# EAGLE library part A4988_DRIVER (library ATtami)
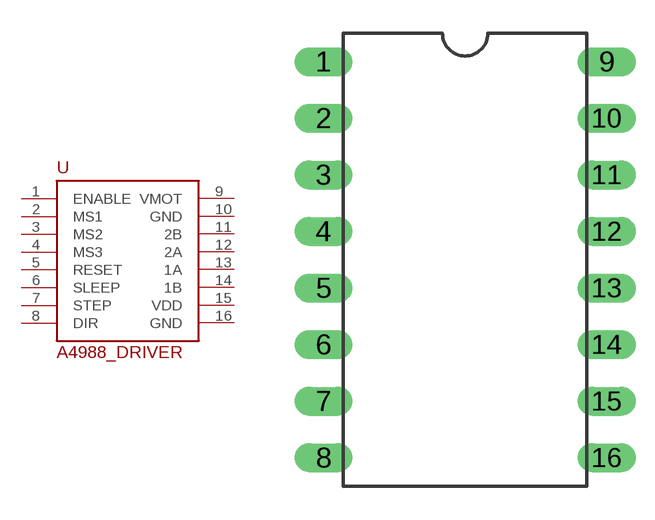
[diagram p1: symbol with the pads of DIL16; footprint DIL16]

Designator prefix -

## A4988_DRIVER  [DIL16]
1  ENABLE
2  MS1
3  MS2
4  MS3
5  RESET
6  SLEEP
7  STEP
8  DIR
9  VMOT
10  GND
11  2B
12  2A
13  1A
14  1B
15  VDD
16  GND

## Footprint DIL16 (pad centres in mm)
drill 0.8 long: 1 -6.35,8.89; 2 -6.35,6.35; 3 -6.35,3.81; 4 -6.35,1.27; 5 -6.35,-1.27; 6 -6.35,-3.81; 7 -6.35,-6.35; 8 -6.35,-8.89; 9 6.35,8.89; 10 6.35,6.35; 11 6.35,3.81; 12 6.35,1.27; 13 6.35,-1.27; 14 6.35,-3.81; 15 6.35,-6.35; 16 6.35,-8.89